# EAGLE library part TS5A9411 (library rs41)
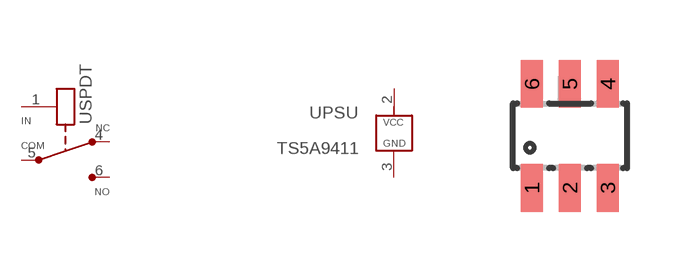
[diagram p2: symbol with the pads of SOT23-6; footprint SOT23-6]

Designator prefix U; gates SPDT=SPDT PSU=PSU

## TS5A9411  [SOT23-6]
1  SPDT:IN
2  PSU:VCC
3  PSU:GND
4  SPDT:NC
5  SPDT:COM
6  SPDT:NO

## Footprint SOT23-6 (pad centres in mm)
smd 0.55 x 1.2: 1 -0.95,-1.3; 2 0,-1.3; 3 0.95,-1.3; 4 0.95,1.3; 5 0,1.3; 6 -0.95,1.3